# Altium schematic symbol library Heatsink.SchLib: 4 symbols
Pins are listed as number, name and electrical type; pins without a type are passive.

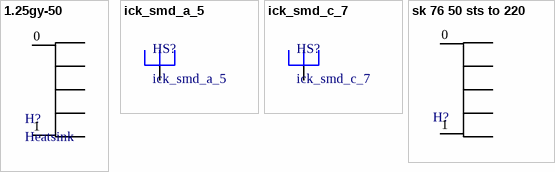
[diagram p0: symbols 1.25gy-50 to sk 76 50 sts to 220]

## 1.25gy-50
designator H?, comment Heatsink
Supplier 1: Farnell; Supplier Part Number 1: 175009
footprint 1.25gy-50 (Heatsink 1.25gy-50)
pins: 0, 1

## ick_smd_a_5
designator HS?
Supplier 1: Farnell; Supplier Part Number 1: 4302163
footprint ick_smd_a_5
pins: 1

## ick_smd_c_7
designator HS?
Supplier 1: Farnell; Supplier Part Number 1: 4302278
footprint ick_smd_c_7
pins: 1

## sk 76 50 sts to 220
designator H?  (value not drawn)
Stock no: RS 221-2182
footprint sk76-50-to220 (Heatsink 6k/w to220)
pins: 0, 1